# Altium footprint library moc3022.PcbLib: 1 footprints
Each footprint in its own frame and in the unit in brackets; x right, y up, seen from the top. Pads: shape width x height; smd on the part's side, far side on the other; paste and mask are expansions set on the pad; w line width, h text height; cw(c..) or ccw(c..) is an arc to the next point about the centre after c.
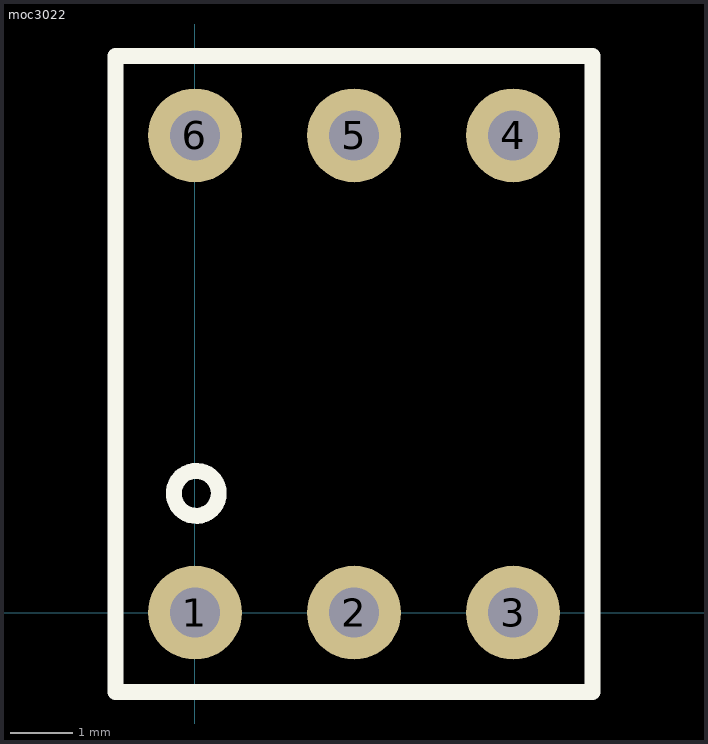
[diagram p0: the footprint, top view; thin cyan lines are the x and y axes]

## moc3022 [mm]
pads (6):
  round 1.5 hole 0.8: 1(0,0) 2(2.54,0) 3(5.08,0) 4(5.08,7.62) 5(2.54,7.62) 6(0,7.62)
Top Overlay:
  circle w0.254: c0.022,1.905 r0.359
  lines w0.254: -1.27,-1.27 6.35,-1.27 6.35,8.89 -1.27,8.89 -1.27,-1.27